# Altium integrated library TinyFir_PCB.IntLib: 12 symbols
Pins are listed as number, name and electrical type; pins without a type are passive.

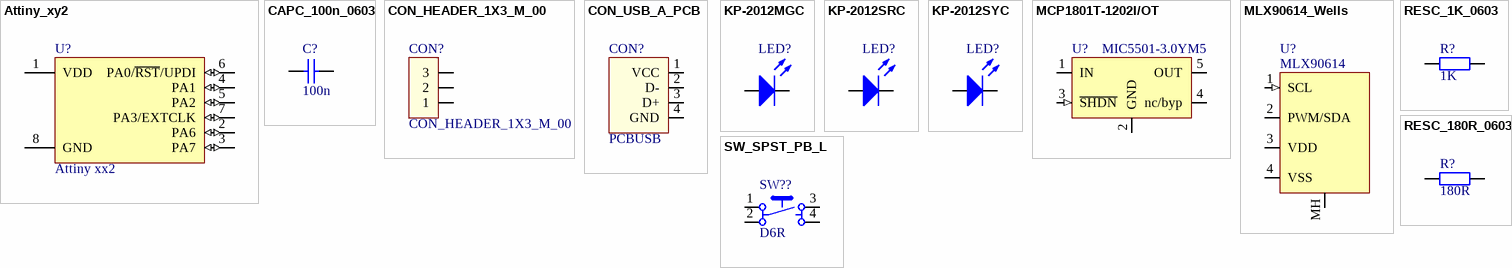
[diagram p0: symbols Attiny_xy2 to SW_SPST_PB_L]

## Attiny_xy2
designator U?, comment Attiny xx2
AVR® Microcontroller with Core Independent Peripherals / and picoPower® Technology
footprint SOIC127P600-8_straight (SOIC, 8-Leads, Body 3.9x4.9mm (narrow body), Pitch 1.27mm, straight leads)
pins: 1 VDD (power), 2 PA6 (io), 3 PA7 (io), 4 PA1 (io), 5 PA2 (io), 6 PA0/~{RST}/UPDI (io), 7 PA3/EXTCLK (io), 8 GND (power)

## CAPC_100n_0603
designator C?, comment 100n
CAPACITOR Ceramic Multi-Layer X7R; 100nF; 50V; 0603; Tolerance, +/-10%; Temp, op. -55°C to +125°C; Manufacturer: Samsung; Manufacturer P/N: CL10B104KBNC; Value: 100000p; MLX P/N: CAPC_100n_0603; CIN: 121-100-067; AMOUNT: 1.000; Fast Track: Yes; Delivery-XPEQT: No; Published: 2007-07-31; ComponentLink1Description: Datasheet [PDF]; Publisher: PDS; ComponentLink1URL: http://cvs.tess.elex.be/cgi-bin/cvsweb/~checkout~/business_units/technology_development/HW_Groups/datasheets/Capacitors/SMD_Ceramic/smccp.pdf?rev=1.1; Voltage: 50V; Supplier 1: Comet Electronics; Supplier Part Number 1: C0603 100nF 50V X7R SAMSUNG; FMEA_TYPE: CAPACITOR
signal-integrity model Cap
simulation model CAP (Capacitor)
footprint CAPC1608[0603]N (Capacitor Chip; Body 1.6 x 0.8 mm (LxW typ) [0603])
pins: 1, 2

## CON_HEADER_1X3_M_00
designator CON?
Header, 1x3 pins, pitch 2.54mm, Male, Straight; CIN: 142-200-388; AMOUNT: 1.000; Delivery-XPEQT: No; FMEA_TYPE: CONNECTOR; ComponentLink1Description: Datasheet [PDF]; ComponentLink1URL: http://cvs.tess.elex.be/cgi-bin/cvsweb/business_units/technology_development/HW_Groups/datasheets/connectors/HEADER_SIL_M_00_FCI.pdf?rev=1.1; Published: 2007-10-03; Publisher: SLE; MLX P/N: CON_HEADER_1X3_M_00; Manufacturer: *; Manufacturer P/N: *; Supplier 1: *; Supplier Part Number 1: *; Fast Track: No
footprint CON_HEADER_1X3_M_00 (Connector; Header; 3 Position)
pins: 1, 2, 3

## CON_USB_A_PCB
designator CON?, comment PCBUSB
USB A PCB connector; Manufacturer: Amphenol; Manufacturer P/N: 10103594-0001LF; MLX P/N: CON_USB_MICRO_B_90; Published: 2018/03; Publisher: GDI; Supplier 1: Farnell; Supplier Part Number 1: 2293752
footprint PCB_USB (PCB usb connector)
pins: 1 VCC, 2 D-, 3 D+, 4 GND

## KP-2012MGC
designator LED?  (value not drawn)
LED SMD 0805 mega green clear; CIN: 153-300-026; AMOUNT: 1.000; Delivery-XPEQT: No; Published: 2008-04-03; Publisher: Altium/vso; ComponentLink1Description: Datasheet [PDF]; ComponentLink1URL: http://cvs.tess.elex.be/cgi-bin/cvsweb/~checkout~/business_units/technology_development/HW_Groups/datasheets/semiconductors/SMD-LED_Kingbright_KP-2012MGC.pdf?rev=1.1; MLX P/N: KP-2012MGC; Manufacturer: *; Manufacturer P/N: *; Supplier 1: *; Supplier Part Number 1: *; Fast Track: No; FMEA_TYPE: LED
footprint DIO2012[0805] (Chip Diode; Body 2.0 x 1.2 mm (LxW typ))
pins: 1 K, 2 A

## KP-2012SRC
designator LED?  (value not drawn)
LED SMD 0805 super bright red clear; CIN: 153-300-024; AMOUNT: 1.000; Delivery-XPEQT: No; Published: 2008-04-03; Publisher: Altium/vso; ComponentLink1Description: Datasheet [PDF]; ComponentLink1URL: http://cvs.tess.elex.be/cgi-bin/cvsweb/~checkout~/business_units/technology_development/HW_Groups/datasheets/semiconductors/SMD-LED_Kingbright_KP2012x.pdf?rev=1.1; MLX P/N: KP-2012SRC; Manufacturer: *; Manufacturer P/N: *; Supplier 1: *; Supplier Part Number 1: *; Fast Track: No; FMEA_TYPE: LED
footprint DIO2012[0805] (Chip Diode; Body 2.0 x 1.2 mm (LxW typ))
pins: 1 K, 2 A

## KP-2012SYC
designator LED?  (value not drawn)
LED SMD 0805 super bright yellow clear; CIN: 153-300-025; AMOUNT: 1.000; Delivery-XPEQT: No; Published: 2008-04-03; Publisher: Altium/vso; ComponentLink1Description: Datasheet [PDF]; ComponentLink1URL: http://cvs.tess.elex.be/cgi-bin/cvsweb/~checkout~/business_units/technology_development/HW_Groups/datasheets/semiconductors/SMD-LED_Kingbright_KP2012x.pdf?rev=1.1; MLX P/N: KP-2012SYC; Manufacturer: *; Manufacturer P/N: *; Supplier 1: *; Supplier Part Number 1: *; Fast Track: No; FMEA_TYPE: LED
footprint DIO2012[0805] (Chip Diode; Body 2.0 x 1.2 mm (LxW typ))
pins: 1 K, 2 A

## MCP1801T-1202I/OT
designator U?, comment MIC5501-3.0YM5
Voltage Regulator, FIxed LDO, Vo=+1.2V, Io=150mA, SOT23-5; Manufacturer: MICROCHIP; MLX P/N: MCP1801T-1202I/OT; AMOUNT: 1.000; CIN: 112-160-146; MLX_Device: Fandriver; Delivery-XPEQT: No; FMEA_TYPE: IC; Published: 2019-04-18; Publisher: DTL; ComponentLink1Description: Datasheet [PDF]; ComponentLink1URL: https://gitlab.melexis.com/tcc-hardware/HW_Templates_Altium/AD_Datasheets/blob/master/MLX_Devices/MCP1801.pdf; Manufacturer P/N: MCP1801T-1202I/OT; Supplier 1: Farnell; Supplier Part Number 1: 1851980; Fast Track: No
footprint SOT23-5 (SOT-23; 5 Leads; Body 3.0 x 3.0 mm, inc. leads (LxW max))
pins: 1 IN (power), 2 GND (power), 3 ~{SHDN} (in), 4 nc/byp, 5 OUT (power)

## MLX90614_Wells
designator U?, comment MLX90614
MLX90614, Socket TO39-4pin, Wells 611-1042314; Manufacturer: WELLS-CTI; MLX P/N: MLX90614_Wells; AMOUNT: 1.000; CIN: 144-800-009; Delivery-XPEQT: No; ComponentLink1Description: Datasheet [pdf]; Published: 2016-01-12; Publisher: MKK; ComponentLink2URL: http://cvs.tess.elex.be/cgi-bin/cvsweb/~checkout~/business_units/technology_development/HW_Groups/datasheets/socket/TO5_TO18_Wells_611_612.pdf?rev=1.1; ComponentLink1URL: http://cvs.tess.elex.be/cgi-bin/cvsweb/~checkout~/business_units/technology_development/HW_Groups/datasheets/MLX_Products/MLX90614_datasheet.pdf?rev=1.1; ComponentLink2Description: Socket drawing; Manufacturer P/N: 611-1042314; Supplier 1: WELLS-CTI; Supplier Part Number 1: 611-1042314; Fast Track: No
footprint TO39_4_F_00 (TO39; 4 Leads; Pin Circle 5.08 mm)
pins: 1 SCL (in), 2 PWM/SDA (io), 3 VDD (power), 4 VSS (power), MH (power)

## RESC_1K_0603
designator R?, comment 1K
Resistor Thick Film; 1K; 0603; 0.1W; 1%; 50V; 100ppm/DegC; Value: 1000R; MLX P/N: RESC_1K_0603; CIN: 122-110-174; AMOUNT: 1.000; Delivery-XPEQT: No; Published: 2008-04-17; Publisher: PDS; ComponentLink1Description: Datasheet [PDF]; ComponentLink1URL: http://cvs.tess.elex.be/cgi-bin/cvsweb/~checkout~/business_units/technology_development/HW_Groups/datasheets/Resistors/SMD/SMD_Resistors.pdf?rev=1.1; Tolerance: 1%; Supplier 1: Comet Electronics; Supplier Part Number 1: R0603 1.0K 1%; Fast Track: No; FMEA_TYPE: RESISTOR
footprint RESC1608[0603]N (Resistor Chip; Body 1.6 x 0.8 mm (LxW typ) [0603])
simulation model RESISTOR (Resistor)
signal-integrity model Res
pins: 1, 2

## RESC_180R_0603
designator R?, comment 180R
Resistor Thick Film; 180R; 0603; 0.1W; 1%; 50V; 100ppm/DegC; MLX P/N: RESC_180R_0603; CIN: 122-110-440; AMOUNT: 1.000; Delivery-XPEQT: No; Fast Track: Yes; Published: 2008-04-17; Publisher: PDS; ComponentLink1Description: Datasheet [PDF]; ComponentLink1URL: http://cvs.tess.elex.be/cgi-bin/cvsweb/~checkout~/business_units/technology_development/HW_Groups/datasheets/Resistors/SMD/SMD_Resistors.pdf?rev=1.1; Value: 180R; Tolerance: 1%; Manufacturer: *; Manufacturer P/N: *; Supplier 1: *; Supplier Part Number 1: *; FMEA_TYPE: RESISTOR
footprint RESC1608[0603]N (Resistor Chip; Body 1.6 x 0.8 mm (LxW typ) [0603])
simulation model RESISTOR (Resistor)
signal-integrity model Res
pins: 1, 2

## SW_SPST_PB_L
designator SW??, comment D6R
SPST Momentary Key Switches; Manufacturer: TE connectivity; Manufacturer P/N: 1825910-7; Published: 2018/03; Publisher: GDI
footprint SW_SPST_PB_CK (Switch; SPST, Push button, 4 Leads)
pins: 1 A, 2 B, 3 C, 4 D